# Altium footprint library project_specific.PcbLib: 1 footprints
Each footprint in its own frame and in the unit in brackets; x right, y up, seen from the top. Pads: shape width x height; smd on the part's side, far side on the other; paste and mask are expansions set on the pad; w line width, h text height; cw(c..) or ccw(c..) is an arc to the next point about the centre after c.
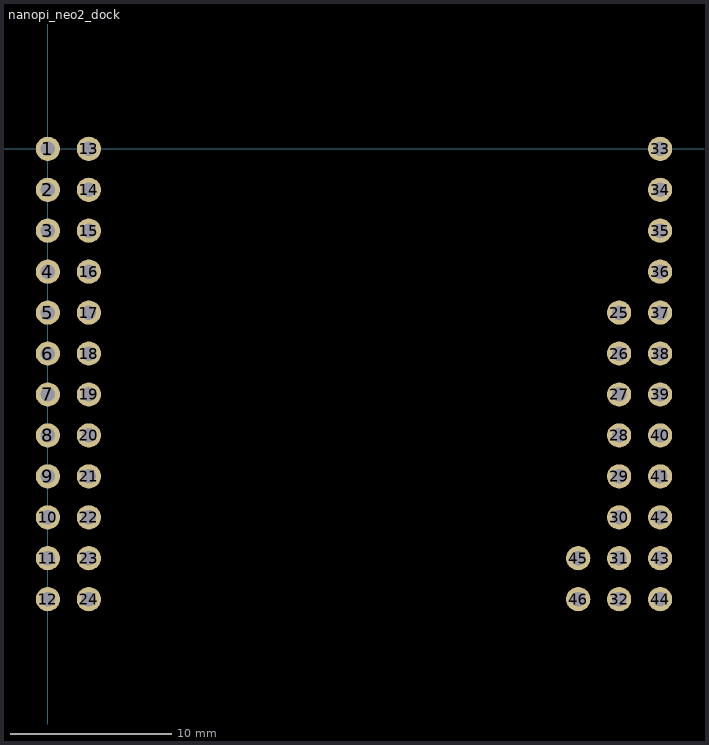
[diagram p0: the footprint, top view; thin cyan lines are the x and y axes]

## nanopi_neo2_dock [mm]
pads (46):
  round 1.5 hole 0.9: 1(0,0) 2(0,-2.54) 3(0,-5.08) 4(0,-7.62) 5(0,-10.16) 6(0,-12.7) 7(0,-15.24) 8(0,-17.78) 9(0,-20.32) 10(0,-22.86) 11(0,-25.4) 12(0,-27.94) 13(2.54,0) 14(2.54,-2.54) 15(2.54,-5.08) 16(2.54,-7.62) 17(2.54,-10.16) 18(2.54,-12.7) 19(2.54,-15.24) 20(2.54,-17.78) 21(2.54,-20.32) 22(2.54,-22.86) 23(2.54,-25.4) 24(2.54,-27.94) 25(35.44,-10.16) 26(35.44,-12.7) 27(35.44,-15.24) 28(35.44,-17.78) 29(35.44,-20.32) 30(35.44,-22.86) 31(35.44,-25.4) 32(35.44,-27.94) 33(37.98,0) 34(37.98,-2.54) 35(37.98,-5.08) 36(37.98,-7.62) 37(37.98,-10.16) 38(37.98,-12.7) 39(37.98,-15.24) 40(37.98,-17.78) 41(37.98,-20.32) 42(37.98,-22.86) 43(37.98,-25.4) 44(37.98,-27.94) 45(32.9,-25.4) 46(32.9,-27.94)
3D body: height 7, standoff 0, extent 34.424,-28.956 39.123,1.016
3D body: height 7, standoff 0, extent -1.016,-29.591 3.683,1.016
3D body "NanoPi-NEO.STEP": height 12.36, standoff -4.89, extent -0.994,-38.862 39.116,6.919
3D body: height 2.5, standoff 0, extent 0,0 0,0